# EAGLE library part IRF7303TRPBF (library charging)
MOSFET MOSFT DUAL NCh 30V 4.9A Source: Datasheet <https://www.infineon.com/dgdl/irf7303pbf.pdf?fileId=5546d462533600a4015355f1c70a1afc>
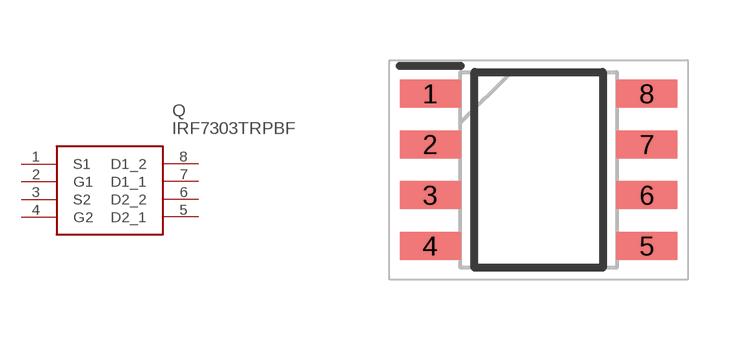
[diagram p1: symbol with the pads of SOIC127P600X175-8N; footprint SOIC127P600X175-8N]

Designator prefix Q

## IRF7303TRPBF (DESCRIPTION: MOSFET MOSFT DUAL NCh 30V 4.9A; HEIGHT: 1.75mm; MANUFACTURER_NAME: Infineon; MANUFACTURER_PART_NUMBER: IRF7303TRPBF; MOUSER_PART_NUMBER: 942-IRF7303TRPBF; MOUSER_PRICE-STOCK: https://www.mouser.co.uk/ProductDetail/Infineon-IR/IRF7303TRPBF?qs=9%252BKlkBgLFf0fhaVrM2bgCg%3D%3D)  [SOIC127P600X175-8N]
1  S1
2  G1
3  S2
4  G2
5  D2_1
6  D2_2
7  D1_1
8  D1_2

## Footprint SOIC127P600X175-8N (pad centres in mm)
8 Lead SOIC-ren1
smd 1.525 x 0.7: 1 -2.712,1.905; 2 -2.712,0.635; 3 -2.712,-0.635; 4 -2.712,-1.905; 5 2.712,-1.905; 6 2.712,-0.635; 7 2.712,0.635; 8 2.712,1.905